# EAGLE library part CC1310F128RHB (library CC1310F128RHB)
None
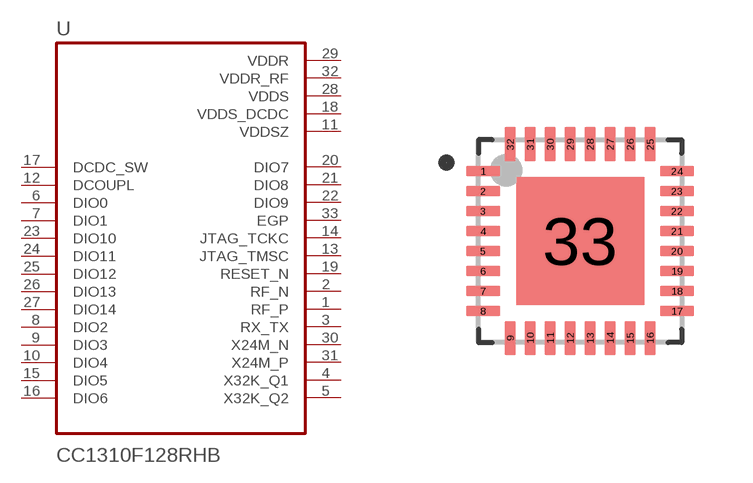
[diagram p0: symbol with the pads of QFN50P500X500X100-33N; footprint QFN50P500X500X100-33N]

Designator prefix U

## CC1310F128RHB (DESCRIPTION: MCU + Sub 1GHz Radio; MF: Texas Instruments; MP: CC1310F128RHB; PACKAGE: VQFN-32)  [QFN50P500X500X100-33N]
1  RF_P
2  RF_N
3  RX_TX
4  X32K_Q1
5  X32K_Q2
6  DIO0
7  DIO1
8  DIO2
9  DIO3
10  DIO4
11  VDDSZ  pwr
12  DCOUPL
13  JTAG_TMSC
14  JTAG_TCKC
15  DIO5
16  DIO6
17  DCDC_SW
18  VDDS_DCDC  pwr
19  RESET_N
20  DIO7
21  DIO8
22  DIO9
23  DIO10
24  DIO11
25  DIO12
26  DIO13
27  DIO14
28  VDDS  pwr
29  VDDR  pwr
30  X24M_N
31  X24M_P
32  VDDR_RF  pwr
33  EGP

## Footprint QFN50P500X500X100-33N (pad centres in mm)
QFP-32 package 5x5 mm case, 0.5 mm lead pitch
smd 0.86 x 0.27: 1 -2.425,1.75; 2 -2.425,1.25; 3 -2.425,0.75; 4 -2.425,0.25; 5 -2.425,-0.25; 6 -2.425,-0.75; 7 -2.425,-1.25; 8 -2.425,-1.75; 17 2.425,-1.75; 18 2.425,-1.25; 19 2.425,-0.75; 20 2.425,-0.25; 21 2.425,0.25; 22 2.425,0.75; 23 2.425,1.25; 24 2.425,1.75
smd 0.27 x 0.86: 9 -1.75,-2.425; 10 -1.25,-2.425; 11 -0.75,-2.425; 12 -0.25,-2.425; 13 0.25,-2.425; 14 0.75,-2.425; 15 1.25,-2.425; 16 1.75,-2.425; 25 1.75,2.425; 26 1.25,2.425; 27 0.75,2.425; 28 0.25,2.425; 29 -0.25,2.425; 30 -0.75,2.425; 31 -1.25,2.425; 32 -1.75,2.425
smd 3.2 x 3.2: 33 0,0